# Altium footprint library 29126.PcbLib: 2 footprints
Each footprint in its own frame and in the unit in brackets; x right, y up, seen from the top. Pads: shape width x height; smd on the part's side, far side on the other; paste and mask are expansions set on the pad; w line width, h text height; cw(c..) or ccw(c..) is an arc to the next point about the centre after c.
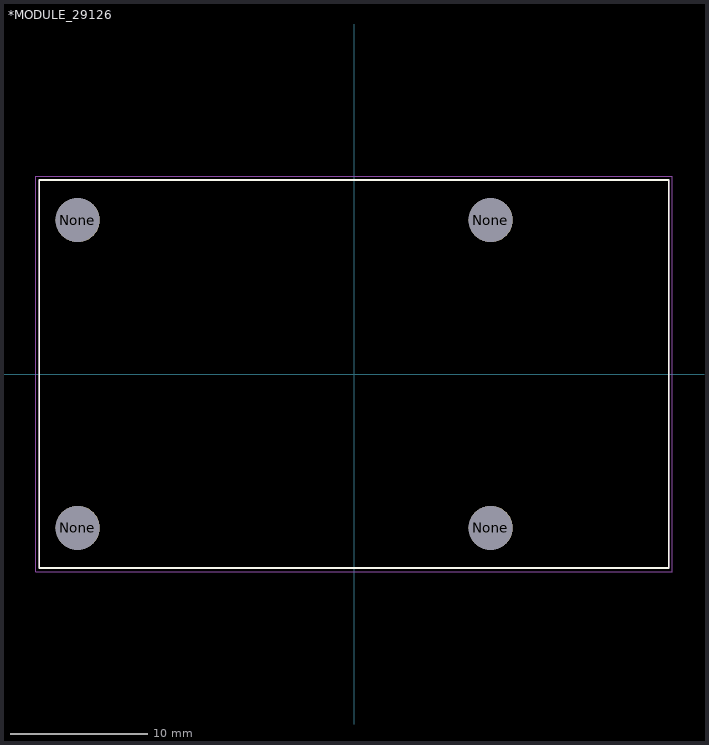
[diagram p0: the footprints below, top view; thin cyan lines are the x and y axes]

## *MODULE_29126 [mm]
pads (4):
  round 3.2 hole 3.2 unplated: None(-20.07,-11.175) None(-20.07,11.175) None(9.93,-11.175) None(9.93,11.175)
Top Overlay:
  lines w0.127: -22.86,-14.095 22.86,-14.095 22.86,14.095 -22.86,14.095 -22.86,-14.095
Mechanical 4:
  lines w0.127: -22.86,-14.095 -22.86,14.095 ; -22.86,-14.095 22.86,-14.095 ; -22.86,-14.095 -22.86,14.095 ; -22.86,-14.095 22.86,-14.095 ; -22.86,14.095 22.86,14.095 ; -22.86,14.095 22.86,14.095 ; 22.86,-14.095 22.86,14.095 ; 22.86,-14.095 22.86,14.095
Mechanical 16:
  lines w0.05: -23.11,-14.345 -23.11,14.345 23.11,14.345 23.11,-14.345 -23.11,-14.345

## PCBComponent_1 [mm]